# Altium footprint library Pushbutton - Large - 5-1437565-0.PcbLib: 1 footprints
Each footprint in its own frame and in the unit in brackets; x right, y up, seen from the top. Pads: shape width x height; smd on the part's side, far side on the other; paste and mask are expansions set on the pad; w line width, h text height; cw(c..) or ccw(c..) is an arc to the next point about the centre after c.
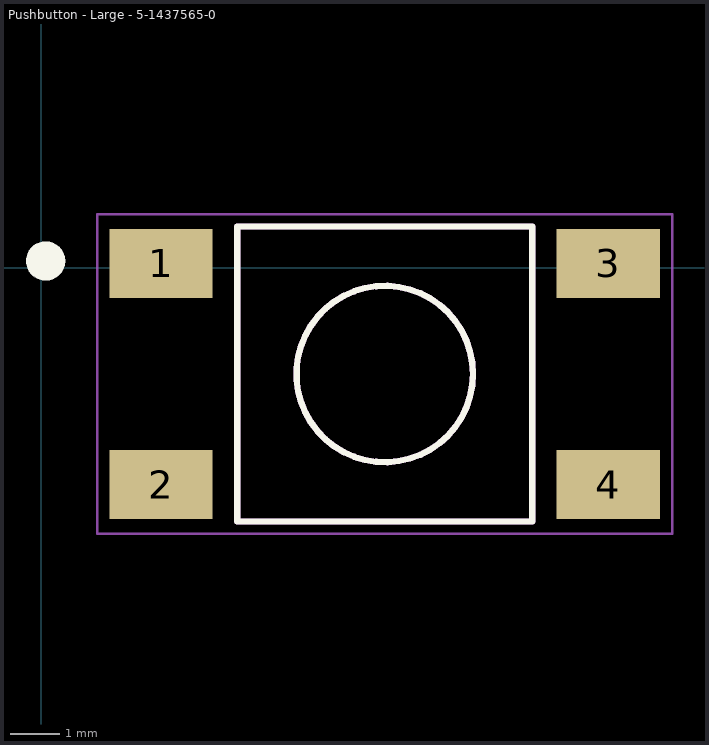
[diagram p0: the footprint, top view; thin cyan lines are the x and y axes]

## Pushbutton - Large - 5-1437565-0 [mm]
pads (4):
  rect 2.1x1.4 smd: 1(2.435,0.091) 2(2.435,-4.409) 3(11.535,0.091) 4(11.535,-4.409)
Top Overlay:
  circle w0.4: c0.085,0.141 r0.2
  circle w0.127: c6.985,-2.159 r1.796
  lines w0.127: 3.985,-5.159 9.985,-5.159 9.985,0.841 3.985,0.841 3.985,-5.159
Mechanical 1:
  circle w0.127: c6.985,-2.159 r1.796
  lines w0.127: 3.985,-5.159 9.985,-5.159 9.985,0.841 3.985,0.841 3.985,-5.159
Mechanical 4:
  lines w0.05: 1.135,-5.409 1.135,1.091 12.835,1.091 12.835,-5.409 1.135,-5.409